# Altium schematic symbol library DRA_OhM.Schlib: 1 symbol
Pins are listed as number, name and electrical type; pins without a type are passive.

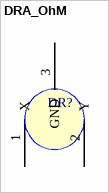
[diagram p0: symbol DRA_OhM]

## DRA_OhM
designator DR?  (value not drawn)
DRA_Rx_OhM
pins: 1 X, 2 Y, 3 GND